# Altium integrated library PCB_L298_Board.IntLib: 19 symbols
Pins are listed as number, name and electrical type; pins without a type are passive.

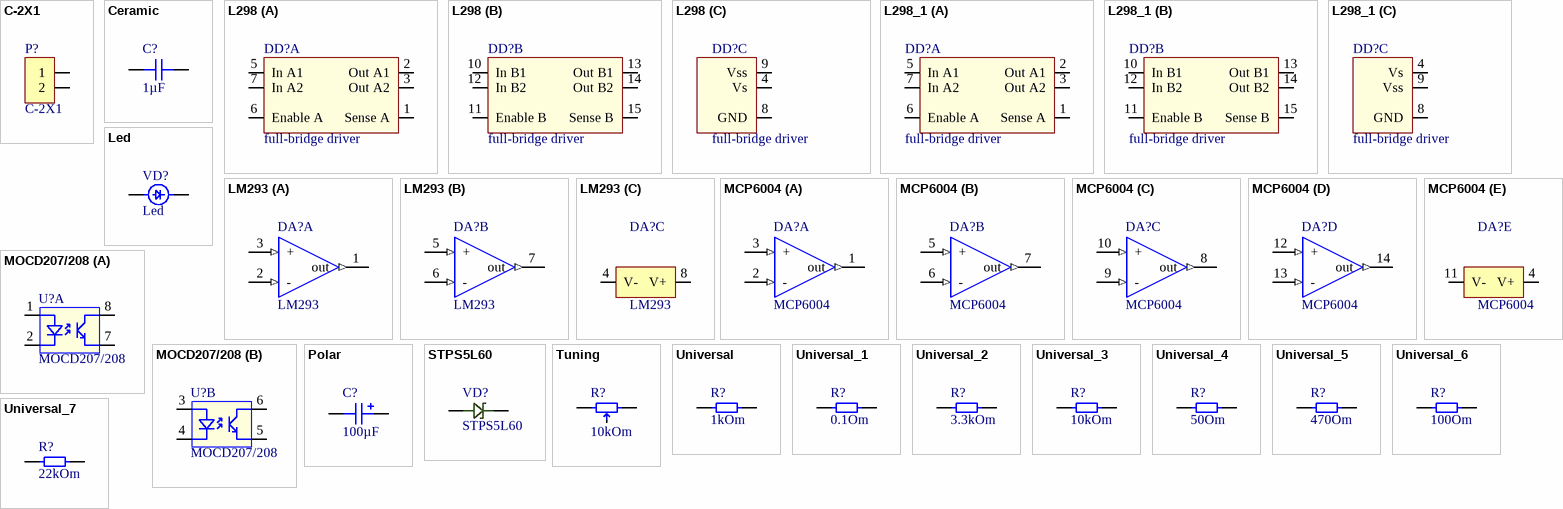
[diagram p0: symbols C-2X1 to Universal_7]

## C-2X1
designator P?
footprint C-2X1(2.54)
footprint CB2-10-11-X(5.08)
pins: 1, 2

## Ceramic
designator C?  capacity: 1µF  (hidden comment: Ceramic)
footprint SMD-1206
pins: 1, 2

## L298
designator DD?, comment full-bridge driver
The L298 is an integrated monolithic circuit in a 15- / lead Multiwatt and PowerSO20 packages. It is a / high voltage, high current dual full-bridge driver designed to accept standard TTL logic levels and drive / inductive loads such as relays, solenoids, DC and / stepping motors. T
footprint Multiwatt15
part A pins: 1 Sense A, 2 Out A1, 3 Out A2, 5 In A1, 6 Enable A, 7 In A2
part B pins: 10 In B1, 11 Enable B, 12 In B2, 13 Out B1, 14 Out B2, 15 Sense B
part C pins: 4 Vs, 8 GND, 9 Vss

## L298_1
designator DD?, comment full-bridge driver
High voltage, high current dual full-bridge driver designed to accept standard TTL logic levels and drive / inductive loads such as relays, solenoids, DC and / stepping motors.
footprint Multiwatt15
part A pins: 1 Sense A, 2 Out A1, 3 Out A2, 5 In A1, 6 Enable A, 7 In A2
part B pins: 10 In B1, 11 Enable B, 12 In B2, 13 Out B1, 14 Out B2, 15 Sense B
part C pins: 4 Vs, 8 GND, 9 Vss

## Led
designator VD?
universal template
footprint SMD-1206
footprint LED-RAD-(3)(3.175)
footprint LED-RAD-(3)(5.08)
pins: 1, 2

## LM293
designator DA?
Low Power Dual Voltage Comparators
part A pins: 1 out (out), 2 - (in), 3 + (in)
part B pins: 5 + (in), 6 - (in), 7 out (out)
part C pins: 4 V- (power), 8 V+ (power)

## MCP6004
designator DA?
1 MHz, Low-Power Op Amp
footprint SOP-14
part A pins: 1 out (out), 2 - (in), 3 + (in)
part B pins: 5 + (in), 6 - (in), 7 out (out)
part C pins: 8 out (out), 9 - (in), 10 + (in)
part D pins: 12 + (in), 13 - (in), 14 out (out)
part E pins: 4 V+ (power), 11 V- (power)

## MOCD207/208
designator U?
Dual-channel Phototransistor Small Outline Surface / Mount Optocouplers
footprint SOP-8
part A pins: 1, 2, 7, 8
part B pins: 3, 4, 5, 6

## Polar
designator C?  capacity: 100µF  (hidden comment: Polar)
footprint BAR-(6.3-11)(2.54)
footprint BAR-(6.3-11)(2.54)G
footprint BAR-(8-11)(3.175)
footprint BAR-(8-X)(3.175)
footprint BAR-(10-11)(5.08)G
footprint BAR-(16-25)(7.5)
footprint BAR-(10-X)(5.08)
footprint BAR-(22-25)(10.16)
pins: 1, 2

## STPS5L60
designator VD?
5 A - 60 V power Schottky rectifier
footprint SMB(DO-214AA)
pins: 1, 2

## Tuning
designator R?  Resistance: 10kOm  (hidden comment: Tuning)
footprint 3296(bot only)
footprint 3296-P
footprint Model Name (Footprint not found)
pins: 1, 2, 3

## Universal
designator R?  value 1kOm  (hidden comment: Universal)
footprint SMD-1206
footprint C1-4-0.25(EX-1)
footprint Res-Axial-20
pins: 1, 2

## Universal_1
designator R?, comment value 0.1Om  (hidden comment: Universal)
footprint SMD-1206
footprint C1-4-0.25(EX-1)
footprint Res-Axial-20
pins: 1, 2

## Universal_2
designator R?, comment value 3.3kOm  (hidden comment: Universal)
footprint SMD-1206
footprint C1-4-0.25(EX-1)
footprint Res-Axial-20
pins: 1, 2

## Universal_3
designator R?, comment value 10kOm  (hidden comment: Universal)
footprint SMD-1206
footprint C1-4-0.25(EX-1)
footprint Res-Axial-20
pins: 1, 2

## Universal_4
designator R?, comment value 50Om  (hidden comment: Universal)
footprint SMD-1206
footprint C1-4-0.25(EX-1)
footprint Res-Axial-20
pins: 1, 2

## Universal_5
designator R?, comment value 470Om  (hidden comment: Universal)
footprint SMD-1206
footprint C1-4-0.25(EX-1)
footprint Res-Axial-20
pins: 1, 2

## Universal_6
designator R?, comment value 100Om  (hidden comment: Universal)
footprint SMD-1206
footprint C1-4-0.25(EX-1)
footprint Res-Axial-20
pins: 1, 2

## Universal_7
designator R?, comment value 22kOm  (hidden comment: Universal)
footprint SMD-1206
footprint C1-4-0.25(EX-1)
footprint Res-Axial-20
pins: 1, 2